# EAGLE library part 0395021014 (library Aldebaran)
TERM BLOCK HDR 14POS 90DEG 3.5MM
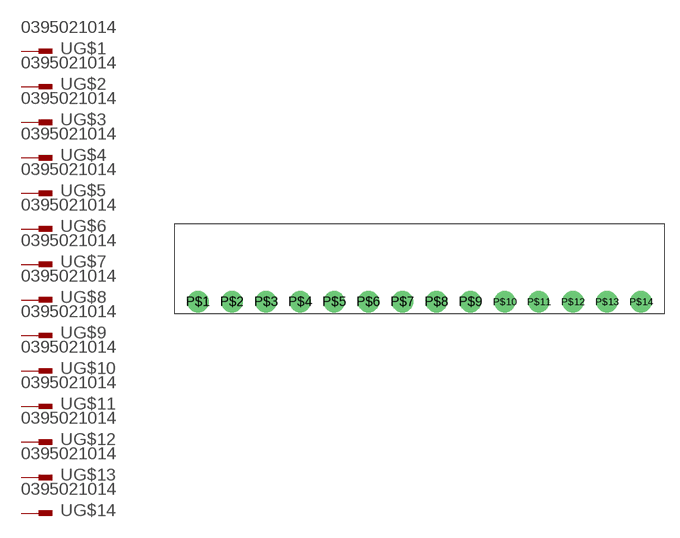
[diagram p4: symbol with the pads of 0395021014; footprint 0395021014]

Designator prefix -; gates G$1=PIN_V G$2=PIN_V G$3=PIN_V G$4=PIN_V G$5=PIN_V G$6=PIN_V G$7=PIN_V G$8=PIN_V G$9=PIN_V G$10=PIN_V G$11=PIN_V G$12=PIN_V G$13=PIN_V G$14=PIN_V

## 0395021014  [0395021014]
P$1  G$1:1  pas
P$2  G$2:1  pas
P$3  G$3:1  pas
P$4  G$4:1  pas
P$5  G$5:1  pas
P$6  G$6:1  pas
P$7  G$7:1  pas
P$8  G$8:1  pas
P$9  G$9:1  pas
P$10  G$10:1  pas
P$11  G$11:1  pas
P$12  G$12:1  pas
P$13  G$13:1  pas
P$14  G$14:1  pas

## Footprint 0395021014 (pad centres in mm)
TERM BLOCK HDR 14POS 90DEG 3.5MM
drill 1.3 pad 2.184: P$1 2.445,1.2; P$2 5.945,1.2; P$3 9.445,1.2; P$4 12.945,1.2; P$5 16.445,1.2; P$6 19.945,1.2; P$7 23.445,1.2; P$8 26.945,1.2; P$9 30.445,1.2; P$10 33.945,1.2; P$11 37.445,1.2; P$12 40.945,1.2; P$13 44.445,1.2; P$14 47.945,1.2